# EAGLE library part 6861XX183822_686110183822 (library WR-FPC)
WR-FPC 1.00 mm SMT ZIF Vertical Type A KIND PROPERTIES Pitch 1 mm MATERIAL PROPERTIES Insulator Material PA6T Contact Material Phosphor Bronze Contact Plating 120 (µ") Tin over 30 (µ") Nickel Solder Tabs Brass <https://www.we-online.com/catalog/media/o83988v209%20Family_WR-FPC_6861xx183822.jpg> Details see: https://www.we-online.com/catalog/en/FPC_1_00_SMT_ZIF_VERTICAL_TYPE_A_6861XX183822/ Updated by Ella Wu, 2020-08-25 2020 (C) Würth Elektronik
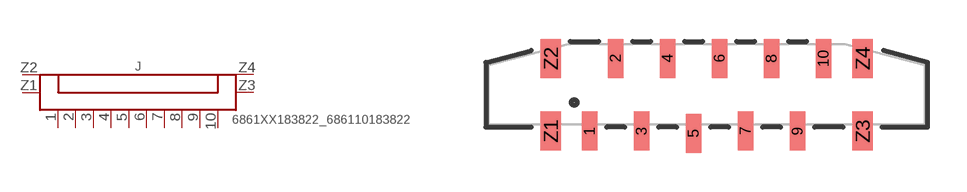
[diagram p128: symbol with the pads of 686110183822; footprint 686110183822]

Designator prefix J

## 6861XX183822_686110183822 (CONTACT-RESISTANCE: 30Ohm; DATASHEET-URL: https://www.we-online.com/catalog/datasheet/686110183822.pdf; IR: 1A; L: 16.8mm; MATE-WITH: WR-FFC 1.00 mm Flat Flexible Cable Type 1 (Contacts on same side)/ Type 2 (Contacts opposite); PACKAGING: Tape and Reel; PART-NUMBER: 686110183822; PINS: 10; PITCH: 1mm; TYPE: Vertical; VALUE: 686110183822; WORKING-VOLTAGE: 125V(AC))  [686110183822]
1  1  pas
2  2  pas
3  3  pas
4  4  pas
5  5  pas
6  6  pas
7  7  pas
8  8  pas
9  9  pas
10  10  pas
Z1  Z1  pas
Z2  Z2  pas
Z3  Z3  pas
Z4  Z4  pas

## Footprint 686110183822 (pad centres in mm)
WR-FPC 1.00 mm SMT ZIF Vertical Type A,10 Pins
smd 0.6 x 1.5: 1 -4.5,-1.8; 2 -3.5,1; 3 -2.5,-1.8; 4 -1.5,1; 5 -0.5,-1.89; 6 0.5,1; 7 1.5,-1.8; 8 2.5,1; 9 3.5,-1.8; 10 4.5,1
smd 0.8 x 1.5: Z1 -6,-1.8; Z2 -6,1; Z3 6,-1.8; Z4 6,1